# Altium schematic symbol library LM27313DC-DC.SchLib: 1 symbol
Pins are listed as number, name and electrical type; pins without a type are passive.

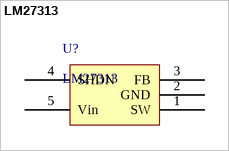
[diagram p0: symbol LM27313]

## LM27313
designator U?
footprint LM27313
pins: 1 SW, 2 GND, 3 FB, 4 SHDN, 5 Vin